# Altium integrated library Linear Technology Power Management Switching Regulator LTC1174-LTC3901.IntLib: 2647 symbols (part 37 of 364)
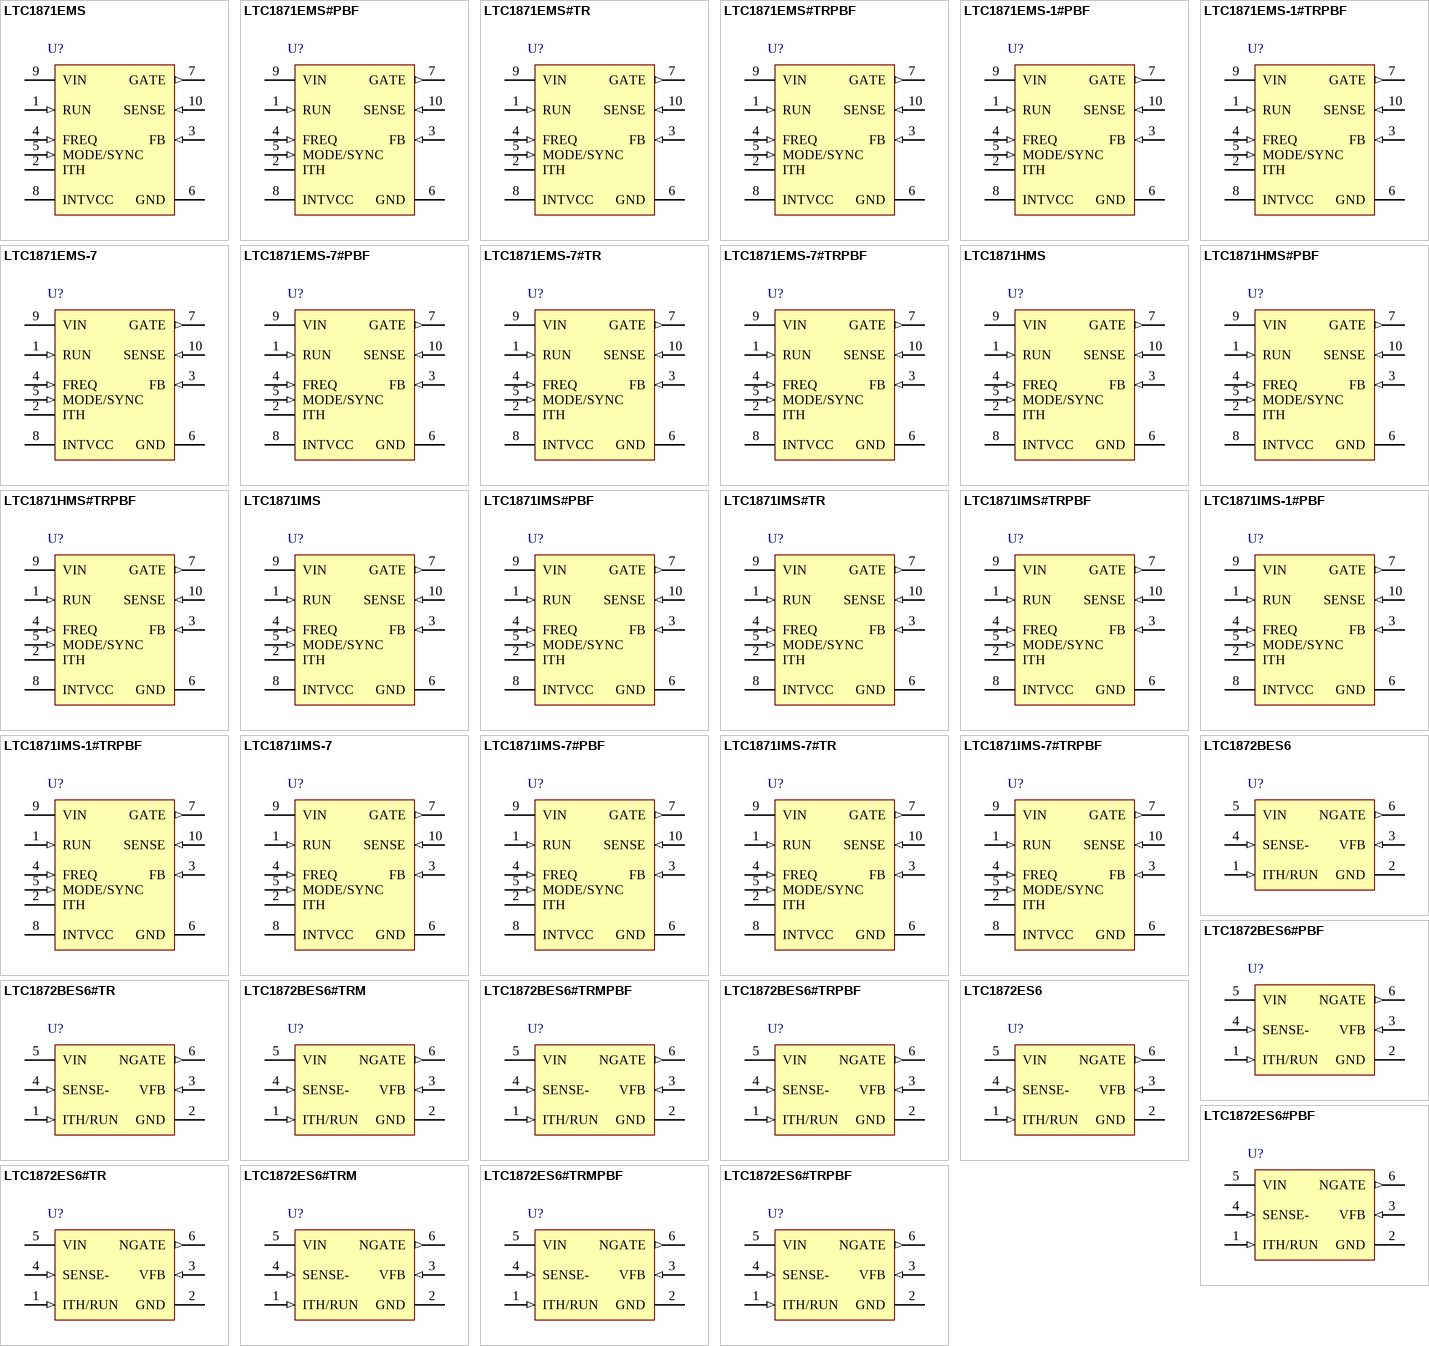
[diagram p234: symbols LTC1871EMS to LTC1872ES6#TRPBF]

## LTC1871EMS-1#TRPBF
designator U?
Wide Input Range, No Rsense Current Mode Boost, Flyback and SEPIC Controller, Lower Pulse Skip Threshold, 10-pin SOP (MS-10), -40 to 85 degC, Pb-Free, Tape and Reel; Manufacturer: Linear Technology; PartNumber: LTC1871EMS-1#TRPBF; Number of Outputs: 1; DatasheetVersion: Rev. B; PackageVersion: Rev. E, 06/2010; PackageReference: MS-10; PackageDescription: 10-Pin Plastic MSOP, Body 3 x 3 mm, Pitch 0.5 mm; Supplier 1: Digi-Key; Supplier Part Number 1: LTC1871EMS-1#TRPBF-ND; Supplier 2: Newark; Supplier Part Number 2: 56M4251; Packing: Tape and Reel; RoHS: TRUE; Mounting Technology: Surface Mount; ComponentLink1Description: Manufacturer URL; ComponentLink1URL: http://www.linear.com/; ComponentLink2Description: Datasheet; ComponentLink2URL: http://cds.linear.com/docs/en/datasheet/18711fb.pdf; ComponentLink3Description: Package Specification; ComponentLink3URL: http://cds.linear.com/docs/en/packaging/05081661_F_MS.pdf
footprint LT-MS-10_N (SOP, 10-Leads, Body 3.1x3.1mm, Pitch 0.5mm, IPC Medium Density)
footprint LT-MS-10_L (SOP, 10-Leads, Body 3.1x3.1mm, Pitch 0.5mm, IPC High Density)
footprint LT-MS-10_M (SOP, 10-Leads, Body 3.1x3.1mm, Pitch 0.5mm, IPC Low Density)
pins: 1 RUN (in) "The RUN pin provides the user with an accurate means for sensing the input voltage and programming the start-up threshold for the converter. The falling RUN pin threshold is nominally 1.248V and the comparator has 100mV of (See Datasheet)", 2 ITH "Error Amplifier Compensation Pin. The current comparator input threshold increases with this control voltage. Nominal voltage range for this pin is 0V to 1.40V.", 3 FB (in) "Receives the feedback voltage from the external resistor divider across the output. Nominal voltage for this pin in regulation is 1.230V.", 4 FREQ (in) "A resistor from the FREQ pin to ground programs the operating frequency of the chip. The nominal voltage at the FREQ pin is 0.6V.", 5 MODE/SYNC (in) "This input controls the operating mode of the converter and allows for synchronizing the operating frequency to an external clock. If the MODE/ SYNC pin is connected to ground, Burst Mode operation is enabled. If the (See Datasheet)", 6 GND (power) "Ground Pin.", 7 GATE (out) "Gate Driver Output.", 8 INTVCC (power) "The Internal Regulator Output. The gate driver and control circuits are powered from this voltage. Decouple this pin locally to the IC ground with a minimum of 4.7uF low ESR tantalum or ceramic capacitor.", 9 VIN (power) "Main Supply Pin. Must be closely decoupled to ground.", 10 SENSE (in) "The Current Sense Input for the Control Loop. Connect this pin to a resistor in the source of the power MOSFET. Alternatively, the SENSE pin may be connected to the drain of the power MOSFET, in applications where the (See Datasheet)"

## LTC1871EMS-7
designator U?
Drives 6 V-Gate N-Channel MOSFETs for High Voltage Telecom and Automotive Apps, Frequency Set with Resistor, 10-pin SOP (MS-10), -40 to 85 degC; Manufacturer: Linear Technology; PartNumber: LTC1871EMS-7; Number of Outputs: 1; DatasheetVersion: Rev. D; PackageVersion: Rev. E, 06/2010; PackageReference: MS-10; PackageDescription: 10-Pin Plastic MSOP, Body 3 x 3 mm, Pitch 0.5 mm; Supplier 1: Digi-Key; Supplier Part Number 1: LTC1871EMS-7-ND; Supplier 2: Newark; Supplier Part Number 2: 56M4252; RoHS: FALSE; Mounting Technology: Surface Mount; ComponentLink1Description: Manufacturer URL; ComponentLink1URL: http://www.linear.com/; ComponentLink2Description: Datasheet; ComponentLink2URL: http://cds.linear.com/docs/en/datasheet/18717fd.pdf; ComponentLink3Description: Package Specification; ComponentLink3URL: http://cds.linear.com/docs/en/packaging/05081661_F_MS.pdf
footprint LT-MS-10_N (SOP, 10-Leads, Body 3.1x3.1mm, Pitch 0.5mm, IPC Medium Density)
footprint LT-MS-10_L (SOP, 10-Leads, Body 3.1x3.1mm, Pitch 0.5mm, IPC High Density)
footprint LT-MS-10_M (SOP, 10-Leads, Body 3.1x3.1mm, Pitch 0.5mm, IPC Low Density)
pins: 1 RUN (in) "The RUN pin provides the user with an accurate means for sensing the input voltage and programming the start-up threshold for the converter. The falling RUN pin threshold is nominally 1.248V and the comparator has 100mV of (See Datasheet)", 2 ITH "Error Amplifier Compensation Pin. The current comparator input threshold increases with this control voltage. Nominal voltage range for this pin is 0V to 1.40V.", 3 FB (in) "Receives the feedback voltage from the external resistor divider across the output. Nominal voltage for this pin in regulation is 1.230V.", 4 FREQ (in) "A resistor from the FREQ pin to ground programs the operating frequency of the chip. The nominal voltage at the FREQ pin is 0.6V.", 5 MODE/SYNC (in) "This input controls the operating mode of the converter and allows for synchronizing the operating frequency to an external clock. If the MODE/ SYNC pin is connected to ground, Burst Mode operation is enabled. If the (See Datasheet)", 6 GND (power) "Ground Pin.", 7 GATE (out) "Gate Driver Output.", 8 INTVCC (power) "The Internal Regulator Output. The gate driver and control circuits are powered from this voltage. Decouple this pin locally to the IC ground with a minimum of 4.7uF low ESR tantalum or ceramic capacitor.", 9 VIN (power) "Main Supply Pin. Must be closely decoupled to ground.", 10 SENSE (in) "The Current Sense Input for the Control Loop. Connect this pin to a resistor in the source of the power MOSFET. Alternatively, the SENSE pin may be connected to the drain of the power MOSFET, in applications where the (See Datasheet)"

## LTC1871EMS-7#PBF
designator U?
Drives 6 V-Gate N-Channel MOSFETs for High Voltage Telecom and Automotive Apps, Frequency Set with Resistor, 10-pin SOP (MS-10), -40 to 85 degC, Pb-Free; Manufacturer: Linear Technology; PartNumber: LTC1871EMS-7#PBF; Number of Outputs: 1; DatasheetVersion: Rev. D; PackageVersion: Rev. E, 06/2010; PackageReference: MS-10; PackageDescription: 10-Pin Plastic MSOP, Body 3 x 3 mm, Pitch 0.5 mm; Supplier 1: Digi-Key; Supplier Part Number 1: LTC1871EMS-7#PBF-ND; Supplier 2: Farnell; Supplier Part Number 2: 2295018; Supplier 3: Newark; Supplier Part Number 3: 56M4253; RoHS: TRUE; Mounting Technology: Surface Mount; ComponentLink1Description: Manufacturer URL; ComponentLink1URL: http://www.linear.com/; ComponentLink2Description: Datasheet; ComponentLink2URL: http://cds.linear.com/docs/en/datasheet/18717fd.pdf; ComponentLink3Description: Package Specification; ComponentLink3URL: http://cds.linear.com/docs/en/packaging/05081661_F_MS.pdf
footprint LT-MS-10_N (SOP, 10-Leads, Body 3.1x3.1mm, Pitch 0.5mm, IPC Medium Density)
footprint LT-MS-10_L (SOP, 10-Leads, Body 3.1x3.1mm, Pitch 0.5mm, IPC High Density)
footprint LT-MS-10_M (SOP, 10-Leads, Body 3.1x3.1mm, Pitch 0.5mm, IPC Low Density)
pins: 1 RUN (in) "The RUN pin provides the user with an accurate means for sensing the input voltage and programming the start-up threshold for the converter. The falling RUN pin threshold is nominally 1.248V and the comparator has 100mV of (See Datasheet)", 2 ITH "Error Amplifier Compensation Pin. The current comparator input threshold increases with this control voltage. Nominal voltage range for this pin is 0V to 1.40V.", 3 FB (in) "Receives the feedback voltage from the external resistor divider across the output. Nominal voltage for this pin in regulation is 1.230V.", 4 FREQ (in) "A resistor from the FREQ pin to ground programs the operating frequency of the chip. The nominal voltage at the FREQ pin is 0.6V.", 5 MODE/SYNC (in) "This input controls the operating mode of the converter and allows for synchronizing the operating frequency to an external clock. If the MODE/ SYNC pin is connected to ground, Burst Mode operation is enabled. If the (See Datasheet)", 6 GND (power) "Ground Pin.", 7 GATE (out) "Gate Driver Output.", 8 INTVCC (power) "The Internal Regulator Output. The gate driver and control circuits are powered from this voltage. Decouple this pin locally to the IC ground with a minimum of 4.7uF low ESR tantalum or ceramic capacitor.", 9 VIN (power) "Main Supply Pin. Must be closely decoupled to ground.", 10 SENSE (in) "The Current Sense Input for the Control Loop. Connect this pin to a resistor in the source of the power MOSFET. Alternatively, the SENSE pin may be connected to the drain of the power MOSFET, in applications where the (See Datasheet)"

## LTC1871EMS-7#TR
designator U?
Drives 6 V-Gate N-Channel MOSFETs for High Voltage Telecom and Automotive Apps, Frequency Set with Resistor, 10-pin SOP (MS-10), -40 to 85 degC, Tape and Reel; Manufacturer: Linear Technology; PartNumber: LTC1871EMS-7#TR; Number of Outputs: 1; DatasheetVersion: Rev. D; PackageVersion: Rev. E, 06/2010; PackageReference: MS-10; PackageDescription: 10-Pin Plastic MSOP, Body 3 x 3 mm, Pitch 0.5 mm; Supplier 1: Digi-Key; Supplier Part Number 1: LTC1871EMS-7#TR-ND; Packing: Tape and Reel; RoHS: FALSE; Mounting Technology: Surface Mount; ComponentLink1Description: Manufacturer URL; ComponentLink1URL: http://www.linear.com/; ComponentLink2Description: Datasheet; ComponentLink2URL: http://cds.linear.com/docs/en/datasheet/18717fd.pdf; ComponentLink3Description: Package Specification; ComponentLink3URL: http://cds.linear.com/docs/en/packaging/05081661_F_MS.pdf
footprint LT-MS-10_N (SOP, 10-Leads, Body 3.1x3.1mm, Pitch 0.5mm, IPC Medium Density)
footprint LT-MS-10_L (SOP, 10-Leads, Body 3.1x3.1mm, Pitch 0.5mm, IPC High Density)
footprint LT-MS-10_M (SOP, 10-Leads, Body 3.1x3.1mm, Pitch 0.5mm, IPC Low Density)
pins: 1 RUN (in) "The RUN pin provides the user with an accurate means for sensing the input voltage and programming the start-up threshold for the converter. The falling RUN pin threshold is nominally 1.248V and the comparator has 100mV of (See Datasheet)", 2 ITH "Error Amplifier Compensation Pin. The current comparator input threshold increases with this control voltage. Nominal voltage range for this pin is 0V to 1.40V.", 3 FB (in) "Receives the feedback voltage from the external resistor divider across the output. Nominal voltage for this pin in regulation is 1.230V.", 4 FREQ (in) "A resistor from the FREQ pin to ground programs the operating frequency of the chip. The nominal voltage at the FREQ pin is 0.6V.", 5 MODE/SYNC (in) "This input controls the operating mode of the converter and allows for synchronizing the operating frequency to an external clock. If the MODE/ SYNC pin is connected to ground, Burst Mode operation is enabled. If the (See Datasheet)", 6 GND (power) "Ground Pin.", 7 GATE (out) "Gate Driver Output.", 8 INTVCC (power) "The Internal Regulator Output. The gate driver and control circuits are powered from this voltage. Decouple this pin locally to the IC ground with a minimum of 4.7uF low ESR tantalum or ceramic capacitor.", 9 VIN (power) "Main Supply Pin. Must be closely decoupled to ground.", 10 SENSE (in) "The Current Sense Input for the Control Loop. Connect this pin to a resistor in the source of the power MOSFET. Alternatively, the SENSE pin may be connected to the drain of the power MOSFET, in applications where the (See Datasheet)"

## LTC1871EMS-7#TRPBF
designator U?
Drives 6 V-Gate N-Channel MOSFETs for High Voltage Telecom and Automotive Apps, Frequency Set with Resistor, 10-pin SOP (MS-10), -40 to 85 degC, Pb-Free, Tape and Reel; Manufacturer: Linear Technology; PartNumber: LTC1871EMS-7#TRPBF; Number of Outputs: 1; DatasheetVersion: Rev. D; PackageVersion: Rev. E, 06/2010; PackageReference: MS-10; PackageDescription: 10-Pin Plastic MSOP, Body 3 x 3 mm, Pitch 0.5 mm; Supplier 1: Digi-Key; Supplier Part Number 1: LTC1871EMS-7#TRPBF-ND; Supplier 2: Newark; Supplier Part Number 2: 56M4255; Packing: Tape and Reel; RoHS: TRUE; Mounting Technology: Surface Mount; ComponentLink1Description: Manufacturer URL; ComponentLink1URL: http://www.linear.com/; ComponentLink2Description: Datasheet; ComponentLink2URL: http://cds.linear.com/docs/en/datasheet/18717fd.pdf; ComponentLink3Description: Package Specification; ComponentLink3URL: http://cds.linear.com/docs/en/packaging/05081661_F_MS.pdf
footprint LT-MS-10_N (SOP, 10-Leads, Body 3.1x3.1mm, Pitch 0.5mm, IPC Medium Density)
footprint LT-MS-10_L (SOP, 10-Leads, Body 3.1x3.1mm, Pitch 0.5mm, IPC High Density)
footprint LT-MS-10_M (SOP, 10-Leads, Body 3.1x3.1mm, Pitch 0.5mm, IPC Low Density)
pins: 1 RUN (in) "The RUN pin provides the user with an accurate means for sensing the input voltage and programming the start-up threshold for the converter. The falling RUN pin threshold is nominally 1.248V and the comparator has 100mV of (See Datasheet)", 2 ITH "Error Amplifier Compensation Pin. The current comparator input threshold increases with this control voltage. Nominal voltage range for this pin is 0V to 1.40V.", 3 FB (in) "Receives the feedback voltage from the external resistor divider across the output. Nominal voltage for this pin in regulation is 1.230V.", 4 FREQ (in) "A resistor from the FREQ pin to ground programs the operating frequency of the chip. The nominal voltage at the FREQ pin is 0.6V.", 5 MODE/SYNC (in) "This input controls the operating mode of the converter and allows for synchronizing the operating frequency to an external clock. If the MODE/ SYNC pin is connected to ground, Burst Mode operation is enabled. If the (See Datasheet)", 6 GND (power) "Ground Pin.", 7 GATE (out) "Gate Driver Output.", 8 INTVCC (power) "The Internal Regulator Output. The gate driver and control circuits are powered from this voltage. Decouple this pin locally to the IC ground with a minimum of 4.7uF low ESR tantalum or ceramic capacitor.", 9 VIN (power) "Main Supply Pin. Must be closely decoupled to ground.", 10 SENSE (in) "The Current Sense Input for the Control Loop. Connect this pin to a resistor in the source of the power MOSFET. Alternatively, the SENSE pin may be connected to the drain of the power MOSFET, in applications where the (See Datasheet)"